# EAGLE library part HIJACK (library hijack)
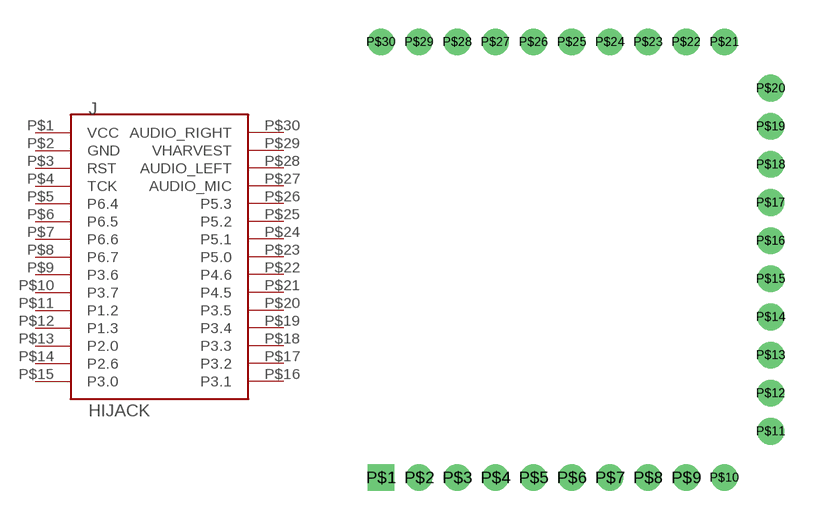
[diagram p8: symbol with the pads of 30PIN_HIJACK; footprint 30PIN_HIJACK]

Designator prefix J

## HIJACK  [30PIN_HIJACK]
P$1  VCC
P$2  GND
P$3  RST
P$4  TCK
P$5  P6.4
P$6  P6.5
P$7  P6.6
P$8  P6.7
P$9  P3.6
P$10  P3.7
P$11  P1.2
P$12  P1.3
P$13  P2.0
P$14  P2.6
P$15  P3.0
P$16  P3.1
P$17  P3.2
P$18  P3.3
P$19  P3.4
P$20  P3.5
P$21  P4.5
P$22  P4.6
P$23  P5.0
P$24  P5.1
P$25  P5.2
P$26  P5.3
P$27  AUDIO_MIC
P$28  AUDIO_LEFT
P$29  VHARVEST
P$30  AUDIO_RIGHT

## Footprint 30PIN_HIJACK (pad centres in mm)
drill 0.89 pad 1.346 square: P$1 -9,-11.43
drill 0.89 pad 1.346: P$2 -7,-11.43; P$3 -5,-11.43; P$4 -3,-11.43; P$5 -1,-11.43; P$6 1,-11.43; P$7 3,-11.43; P$8 5,-11.43; P$9 7,-11.43; P$10 9,-11.43; P$11 11.43,-9; P$12 11.43,-7; P$13 11.43,-5; P$14 11.43,-3; P$15 11.43,-1; P$16 11.43,1; P$17 11.43,3; P$18 11.43,5; P$19 11.43,7; P$20 11.43,9; P$21 9,11.43; P$22 7,11.43; P$23 5,11.43; P$24 3,11.43; P$25 1,11.43; P$26 -1,11.43; P$27 -3,11.43; P$28 -5,11.43; P$29 -7,11.43; P$30 -9,11.43